# Altium schematic symbol library CL21C122JBFNNWE.SchLib: 1 symbol
Pins are listed as number, name and electrical type; pins without a type are passive.

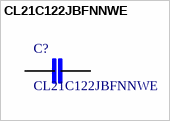
[diagram p0: symbol CL21C122JBFNNWE]

## CL21C122JBFNNWE
designator C?
Cap Ceramic 0.0012uF 50V C0G 5% SMD 0805 125掳C Embossed Plastic T/R; MF: Samsung; Digi-Key_Purchase_URL: https://www.digikey.se/product-detail/en/samsung-electro-mechanics/CL21C122JBFNNWE/1276-2987-1-ND/3891073?WT.z_cid=ref_snapeda&utm_source=snapeda&utm_medium=aggregator&utm_campaign=buynow; Package: 0805 Samsung; MP: CL21C122JBFNNWE; Digi-Key_Part_Number: 1276-2987-1-ND; Value: *
footprint CAPC2012X140N
pins: 1, 2